# Altium footprint library SmartSensors.PcbLib: 40 footprints (part 3 of 3)
Each footprint in its own frame and in the unit in brackets; x right, y up, seen from the top. Pads: shape width x height; smd on the part's side, far side on the other; paste and mask are expansions set on the pad; w line width, h text height; cw(c..) or ccw(c..) is an arc to the next point about the centre after c.
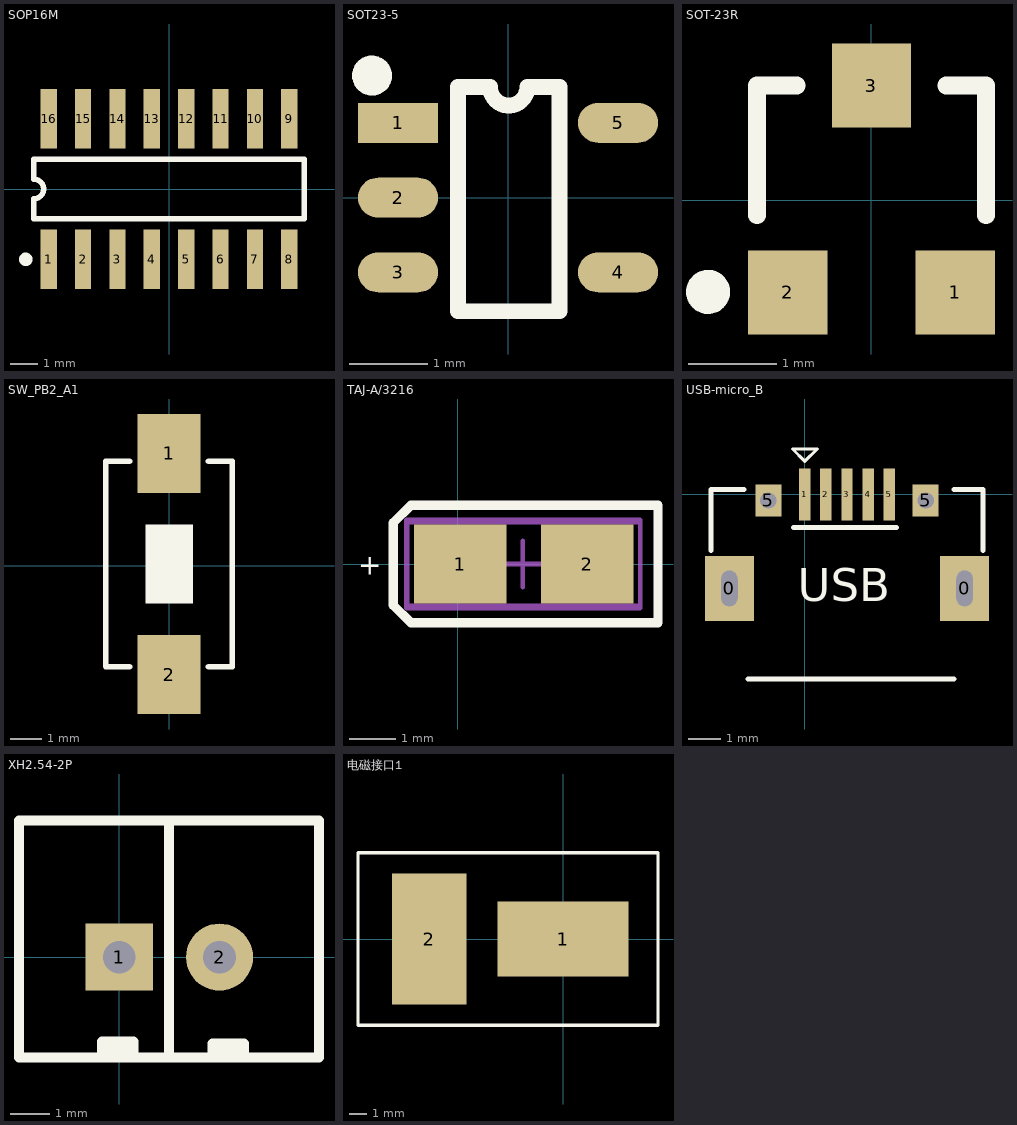
[diagram p2: the footprints below, top view; thin cyan lines are the x and y axes]

## SOP16M [mm]
pads (16):
  rect 0.6x2.2 smd: 1(-4.445,-2.6) 2(-3.175,-2.6) 3(-1.905,-2.6) 4(-0.635,-2.6) 5(0.635,-2.6) 6(1.905,-2.6) 7(3.175,-2.6) 8(4.445,-2.6) 9(4.445,2.6) 10(3.175,2.6) 11(1.905,2.6) 12(0.635,2.6) 13(-0.635,2.6) 14(-1.905,2.6) 15(-3.175,2.6) 16(-4.445,2.6)
Top Overlay:
  circle w0.25: c-5.295,-2.6 r0.125
  lines w0.2: -5,-1.1 5,-1.1 5,1.1 -5,1.1 -5,0.367 cw(c-5,0) -5,-0.367 -5,-1.1

## SOT23-5 [mil]
pads (5):
  rect 40x20 smd: 1(-55,37.4)
  oval 40x20 smd: 2(-55,0) 3(-55,-37.4) 4(55,-37.4) 5(55,37.4)
Top Overlay:
  circle w10: c-68,61 r5
  lines w7.87: -25,55.4 -25,-56.8 25.7,-56.8 25.7,55.4 ; -9,55.4 ccw(c0.35,55.4) 9.7,55.4
  lines w8: -25,55.4 -9,55.4 ; 9.7,55.4 25.7,55.4
3D body "User Library-SOT23-5.STEP": height 42.79, standoff -0.51, extent -55.16,-57.06 55.09,57.09

## SOT-23R [mm]
pads (3):
  rect 0.9x0.95 smd: 1(0.95,-1.048) 2(-0.95,-1.048) 3(0,1.302)
Top Overlay:
  circle w0.25: c-1.856,-1.041 r0.125
  lines w0.2: -1.3,-0.173 -1.3,1.302 -0.85,1.302 ; 0.85,1.302 1.3,1.302 1.3,-0.173

## SW_PB2_A1 [mm]
pads (2):
  rect 2x2.5 smd: 1(0,3.556) 2(0,-3.444)
Top Overlay:
  region: -0.747,1.309 -0.747,-1.191 0.753,-1.191 0.753,1.309
  lines w0.178: -1.25,-3.194 -2,-3.19 -2,3.306 -1.25,3.306 ; 1.25,-3.194 2,-3.194 2,3.306 1.25,3.306
3D body: height 0.8, standoff 0, extent -2.032,-3.175 2.032,3.302
3D body: height 1.2, standoff 0.8, extent -0.762,-1.143 0.762,1.27

## TAJ-A/3216 [mm]
pads (2):
  rect 2x1.7 smd: 1(0.047,0) 2(2.794,0)
Top Overlay:
  lines w0.2: 4.318,-1.016 4.318,1.27 -1.016,1.27 -1.397,0.889 -1.397,-0.889 -1.016,-1.27 4.318,-1.27 4.318,1.016
  text "+" at -2.159,-0.381 h0.76
Mechanical 13:
  lines w0.1: -1.092,-0.9 -1.092,0.9 3.937,0.9 3.937,-0.9 -1.092,-0.9
Mechanical 15:
  lines w0.1: 0.897,0 1.897,0 ; 1.397,-0.5 1.397,0.5 ; -1.118,-0.95 -1.118,0.95 3.937,0.95 3.937,-0.95 -1.118,-0.95
3D body "TAJ-A.STEP": height 1.6, standoff 0, extent -0.203,-0.8 2.997,0.8

## USB-micro_B [mm]
pads (9):
  rect 1.5x2 hole 0.5 slot 1.1 at 90 deg: 0(-2.325,-2.9) 0(4.925,-2.9)
  rect 0.35x1.6 smd: 1(0,0) 2(0.65,0) 3(1.3,0) 4(1.95,0) 5(2.6,0)
  rect 0.8x1 hole 0.5: 5(-1.125,-0.19) 5(3.725,-0.19)
Top Overlay:
  lines w0.1: -0.381,1.397 0,1.016 0.381,1.397 -0.381,1.397
  lines w0.152: -2.891,-1.732 -2.891,0.148 -1.875,0.148 ; -1.748,-5.694 4.602,-5.694 ; -0.35,-1.025 2.825,-1.025 ; 4.602,0.148 5.491,0.148 5.491,-1.732
  text "USB" at -0.224,-3.302 h1.02
3D body "USB-MICRO_B.STEP": height 2.8, standoff -0.95, extent -2.701,-5.6 5.301,0

## XH2.54-2P [mm]
pads (2):
  rect 1.7x1.7 hole 0.83: 1(0,0)
  round 1.7 hole 0.83: 2(2.54,0)
Top Overlay:
  lines w0.254: -0.44,-2.44 -0.44,-2.14 0.36,-2.14 0.36,-2.44 ; -0.39,-2.29 0.36,-2.29 ; 1.26,-2.39 1.26,3.46 ; 2.36,-2.49 2.36,-2.19 3.16,-2.19 3.16,-2.49 ; 2.36,-2.34 3.16,-2.34 ; -2.54,-2.54 5.06,-2.54 5.06,3.46 -2.54,3.46 -2.54,-2.54
3D body "XH2.54-2P.STEP": height 7, standoff -3.4, extent -2.447,-2.367 4.953,3.383

## 电磁接口1 [mm]
pads (2):
  rect 7.7x4.4 smd: 1(0,0)
  rect 4.4x7.7 smd: 2(-7.874,0)
Top Overlay:
  lines w0.2: -12.065,-5.08 -12.065,5.08 5.588,5.08 5.588,-5.08 -12.065,-5.08